# EAGLE library part LC79D (library LC79D)
https://github.com/shridattdudhat
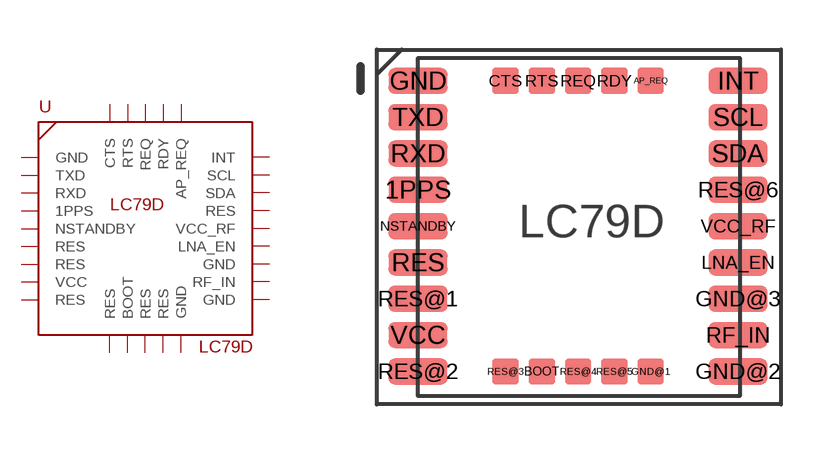
[diagram p0: symbol with the pads of LC79D; footprint LC79D]

Designator prefix U

## LC79D  [LC79D]
1PPS  1PPS
AP_REQ  AP_REQ
BOOT  BOOT
CTS  CTS
GND  GND
GND@1  GND
GND@2  GND
GND@3  GND
INT  INT
LNA_EN  LNA_EN
NSTANDBY  NSTANDBY
RDY  RDY
REQ  REQ
RES  RES
RES@1  RES
RES@2  RES
RES@3  RES
RES@4  RES
RES@5  RES
RES@6  RES
RF_IN  RF_IN
RTS  RTS
RXD  RXD
SCL  SCL
SDA  SDA
TXD  TXD
VCC  VCC
VCC_RF  VCC_RF

## Footprint LC79D (pad centres in mm)
smd 1.8 x 0.8: 1PPS 0,5.5; GND 0,8.8; GND@2 9.7,0; GND@3 9.7,2.2; INT 9.7,8.8; LNA_EN 9.7,3.3; NSTANDBY 0,4.4; RES 0,3.3; RES@1 0,2.2; RES@2 0,0; RES@6 9.7,5.5; RF_IN 9.7,1.1; RXD 0,6.6; SCL 9.7,7.7; SDA 9.7,6.6; TXD 0,7.7; VCC 0,1.1; VCC_RF 9.7,4.4
smd 0.8 x 0.8: AP_REQ 7.05,8.8; BOOT 3.75,0; CTS 2.65,8.8; GND@1 7.05,0; RDY 5.95,8.8; REQ 4.85,8.8; RES@3 2.65,0; RES@4 4.85,0; RES@5 5.95,0; RTS 3.75,8.8